# EAGLE library part PCA9685 (library inanna)
PCA9685 16-channel 12-bit I2C PWM slave
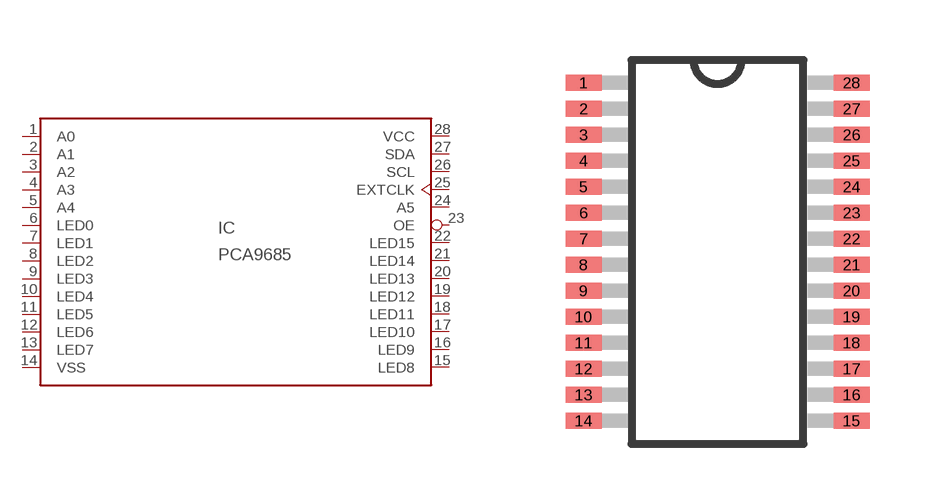
[diagram p5: symbol with the pads of PCA9685; footprint PCA9685]

Designator prefix IC

## PCA9685  [PCA9685]
1  A0  in
2  A1  in
3  A2  in
4  A3  in
5  A4  in
6  LED0  out
7  LED1  out
8  LED2  out
9  LED3  out
10  LED4  out
11  LED5  out
12  LED6  out
13  LED7  out
14  VSS  pwr
15  LED8  out
16  LED9  out
17  LED10  out
18  LED11  out
19  LED12  out
20  LED13  out
21  LED14  out
22  LED15  out
23  OE  in
24  A5  in
25  EXTCLK  in
26  SCL
27  SDA
28  VCC  pwr

## Footprint PCA9685 (pad centres in mm)
PCA9685 Auto generated by make-symbol-device-package-bsdl.ulp Rev. 43
smd 0.9 x 0.4: 1 -3.35,4.225; 2 -3.35,3.575; 3 -3.35,2.925; 4 -3.35,2.275; 5 -3.35,1.625; 6 -3.35,0.975; 7 -3.35,0.325; 8 -3.35,-0.325; 9 -3.35,-0.975; 10 -3.35,-1.625; 11 -3.35,-2.275; 12 -3.35,-2.925; 13 -3.35,-3.575; 14 -3.35,-4.225; 15 3.35,-4.225; 16 3.35,-3.575; 17 3.35,-2.925; 18 3.35,-2.275; 19 3.35,-1.625; 20 3.35,-0.975; 21 3.35,-0.325; 22 3.35,0.325; 23 3.35,0.975; 24 3.35,1.625; 25 3.35,2.275; 26 3.35,2.925; 27 3.35,3.575; 28 3.35,4.225